# Altium footprint library TE_3-644456-7.PcbLib: 1 footprints
Each footprint in its own frame and in the unit in brackets; x right, y up, seen from the top. Pads: shape width x height; smd on the part's side, far side on the other; paste and mask are expansions set on the pad; w line width, h text height; cw(c..) or ccw(c..) is an arc to the next point about the centre after c.
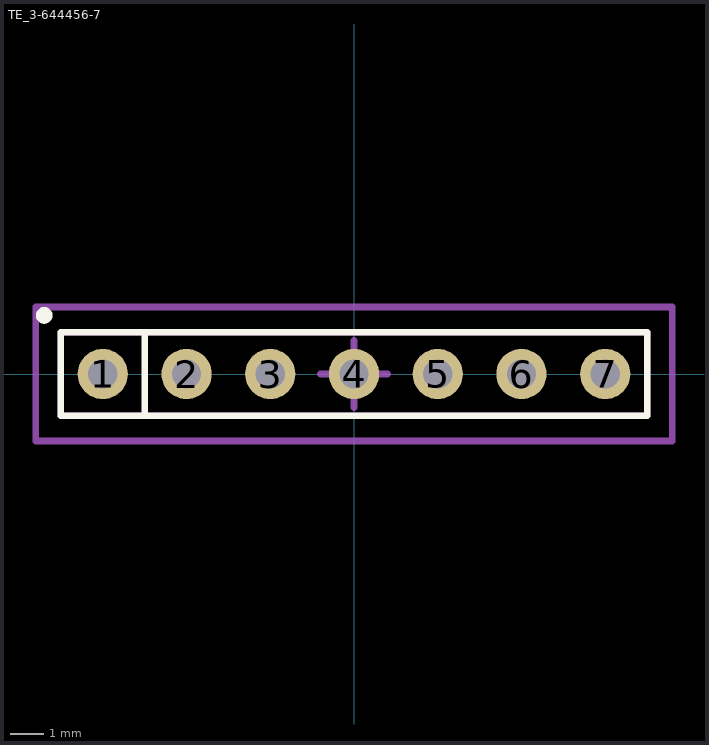
[diagram p0: the footprint, top view; thin cyan lines are the x and y axes]

## TE_3-644456-7 [mil]
pads (7):
  round 60 hole 35: 1(-300,0) 2(-200,0) 3(-100,0) 4(0,0) 5(100,0) 6(200,0) 7(300,0)
Top Overlay:
  circle w10: c-370,70 r5
  lines w7.87: -250,-50 -250,50 ; -350,-50 350,-50 350,50 -350,50 -350,-50
Mechanical 15:
  lines w7.87: -40,0 40,0 ; 0,-40 0,40 ; -380,-80 380,-80 380,80 -380,80 -380,-80
Mechanical 17:
  lines w7.87: -350,-50 -350,50 350,50 350,-50 -350,-50
  text ".Designator" at -340,-40 h30
Mechanical 19:
  lines w7.87: -350,-50 350,-50 350,50 -350,50 -350,-50
  text ".Comment" at -335,-35 h30
3D body: height 395, standoff -110, extent -344.09,-45.99 344.11,46.01